# Altium schematic symbol library Schlib1.SchLib: 5 symbols
Pins are listed as number, name and electrical type; pins without a type are passive.

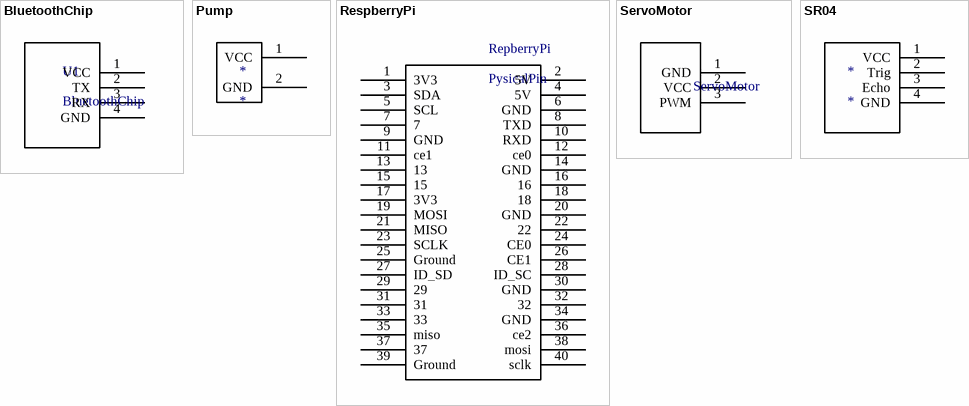
[diagram p0: symbols BluetoothChip to SR04]

## BluetoothChip
designator U1
pins: 1 VCC, 2 TX, 3 RX, 4 GND

## Pump
designator *
pins: 1 VCC, 2 GND

## RespberryPi
designator RepberryPi, comment PysicalPin
pins: 1 3V3, 2 5V, 3 SDA, 4 5V, 5 SCL, 6 GND, 7, 8 TXD, 9 GND, 10 RXD, 11 ce1, 12 ce0, 13, 14 GND, 15, 16, 17 3V3, 18, 19 MOSI, 20 GND, 21 MISO, 22, 23 SCLK, 24 CE0, 25 Ground, 26 CE1, 27 ID_SD, 28 ID_SC, 29, 30 GND, 31, 32, 33, 34 GND, 35 miso, 36 ce2, 37, 38 mosi, 39 Ground, 40 sclk

## ServoMotor
designator ServoMotor
pins: 1 GND, 2 VCC, 3 PWM

## SR04
designator *
pins: 1 VCC, 2 Trig, 3 Echo, 4 GND